# EAGLE library part COIL_FORMER (library Amplifier_Parts)
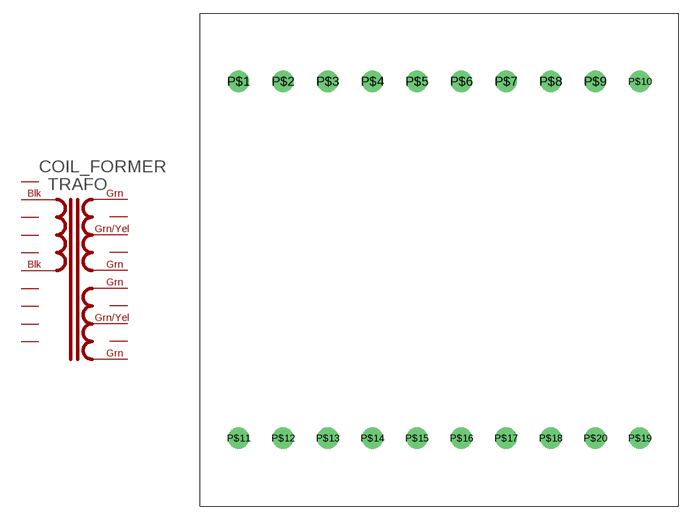
[diagram p5: symbol with the pads of COIL_FORMER; footprint COIL_FORMER]

Designator prefix TRAFO

## COIL_FORMER  [COIL_FORMER]
P$1  P1  pas
P$2  P12
P$3  P13
P$4  P14
P$5  P15
P$6  P2  pas
P$7  P22
P$8  P23
P$9  P24
P$10  P25
P$11  SEC30V+  pas
P$12  S30+1
P$13  GND30  pas
P$14  S30-1
P$15  SEC30-  pas
P$16  SEC15+  pas
P$17  S15+1
P$18  GND15  pas
P$19  S15-1
P$20  SEC15-  pas

## Footprint COIL_FORMER (pad centres in mm)
drill 1.6: P$1 -22.86,0; P$2 -17.78,0; P$3 -12.7,0; P$4 -7.62,0; P$5 -2.54,0; P$6 2.54,0; P$7 7.62,0; P$8 12.7,0; P$9 17.78,0; P$10 22.86,0; P$11 -22.86,-40.64; P$12 -17.78,-40.64; P$13 -12.7,-40.64; P$14 -7.62,-40.64; P$15 -2.54,-40.64; P$16 2.54,-40.64; P$17 7.62,-40.64; P$18 12.7,-40.64; P$19 22.86,-40.64; P$20 17.78,-40.64